# EAGLE library part 10PIN-HEADER (library 000_CustomPartsMaster)
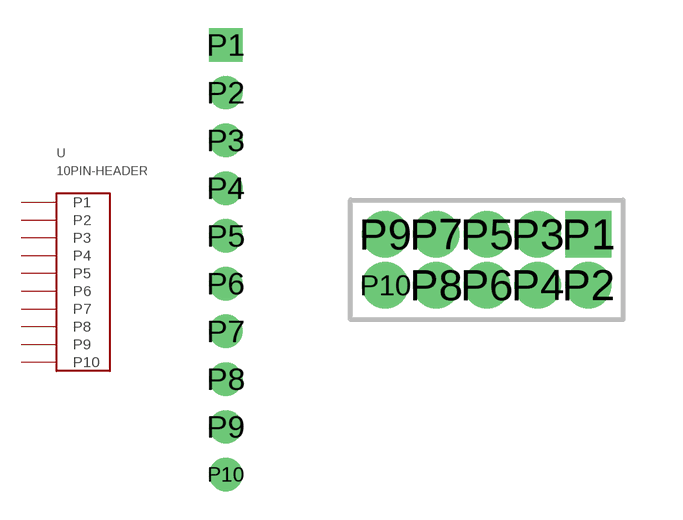
[diagram p11: symbol with the pads of 10PIN_HEADER; footprints 10PIN_HEADER, 5X2_1.27PITCH]

Designator prefix -

## 10PIN-HEADER  [10PIN_HEADER]
P1  P1
P2  P2
P3  P3
P4  P4
P5  P5
P6  P6
P7  P7
P8  P8
P9  P9
P10  P10

## 10PIN-HEADER5X2_1.26PITCH  [5X2_1.27PITCH]
Pads as for 10PIN_HEADER

## Footprint 10PIN_HEADER (pad centres in mm)
drill 1 pad 1.778 square: P1 0,11.43
drill 1 pad 1.778: P2 0,8.89; P3 0,6.35; P4 0,3.81; P5 0,1.27; P6 0,-1.27; P7 0,-3.81; P8 0,-6.35; P9 0,-8.89; P10 0,-11.43

## Footprint 5X2_1.27PITCH (pad centres in mm)
drill 0.65 pad 1 square: P1 2.54,0.635
drill 0.65 pad 1: P2 2.54,-0.635; P3 1.27,0.635; P4 1.27,-0.635; P5 0,0.635; P6 0,-0.635; P7 -1.27,0.635; P8 -1.27,-0.635; P9 -2.54,0.635; P10 -2.54,-0.635